# EAGLE library part 64901621022 (library Wire_to_Board_Connectors_rev15d)
WR-MPC4-4.20mm Male Dual Row Angled Header with Mounting Flanges for Screw-in Retention,16 pins=>Code : Con_WTB_MPC4_2_PCB_64901621022 <http://katalog.we-online.de/media/thumbs2/eican/thb_Con_WTB_MPC4_2_PCB_6490xx21022_pf2.jpg> Details see: http://katalog.we-online.de/en/em/649_0xx_210_22 Created 2014-06-06, Karrer Zheng 2014 (C) Würth Elektronik
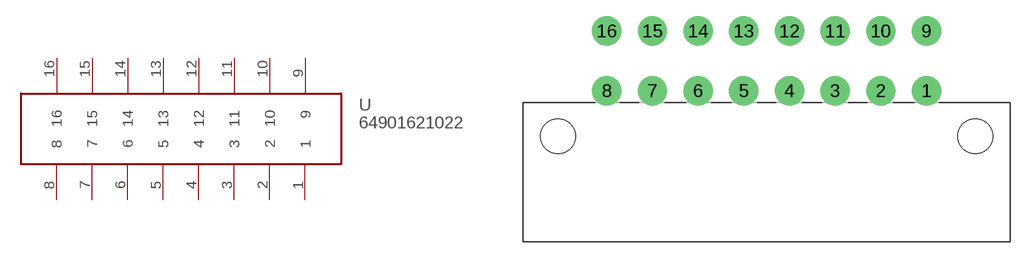
[diagram p300: symbol with the pads of 64901621022; footprint 64901621022]

Designator prefix -

## 64901621022  [64901621022]
1  1
2  2
3  3
4  4
5  5
6  6
7  7
8  8
9  9
10  10
11  11
12  12
13  13
14  14
15  15
16  16

## Footprint 64901621022 (pad centres in mm)
WR-MPC4-4.20mm Male Dual Row Angled Header with Mounting Flanges for Screw-in Retention,16 pins
drill 1.8: 1 14.7,4.2; 2 10.5,4.2; 3 6.3,4.2; 4 2.1,4.2; 5 -2.1,4.2; 6 -6.3,4.2; 7 -10.5,4.2; 8 -14.7,4.2; 9 14.7,9.7; 10 10.5,9.7; 11 6.3,9.7; 12 2.1,9.7; 13 -2.1,9.7; 14 -6.3,9.7; 15 -10.5,9.7; 16 -14.7,9.7
hole 3.2 at -19.2,0
hole 3.2 at 19.2,0